# Altium integrated library RF Inductors-MK_rev15a.intlib: 138 symbols (part 1 of 2)
Pins are listed as number, name and electrical type; pins without a type are passive.

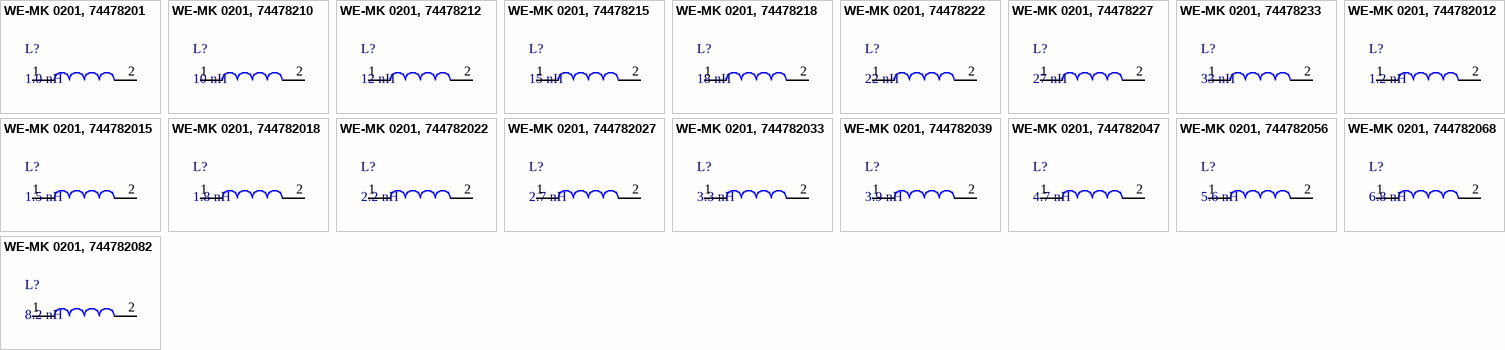
[diagram p0: symbols WE-MK 0201, 74478201 to WE-MK 0201, 744782082]

## WE-MK 0201, 74478201
designator L?, comment 1.0 nH
WE-MK Multilayer Ceramic SMD Inductor, Inductance=1.0 nH; partNo: 74478201; Manufacturer: Wurth Elektronik; Inductance: 1.0 nH; ComponentLink1Description: Manufacturer; ComponentLink1URL: http://www.we-online.de; Created by: Baojun Chen; Created Date: Nov.2015; ComponentLink2Description: Datasheet; ComponentLink2URL: http://katalog.we-online.de/pbs/datasheet/74478201.pdf
footprint WE-MK_0201
pins: 1, 2

## WE-MK 0201, 74478210
designator L?, comment 10 nH
WE-MK Multilayer Ceramic SMD Inductor, Inductance=10 nH; partNo: 74478210; Manufacturer: Wurth Elektronik; Inductance: 10 nH; ComponentLink1Description: Manufacturer; ComponentLink1URL: http://www.we-online.de; Created by: Baojun Chen; Created Date: Nov.2015; ComponentLink2Description: Datasheet; ComponentLink2URL: http://katalog.we-online.de/pbs/datasheet/74478210.pdf
footprint WE-MK_0201
pins: 1, 2

## WE-MK 0201, 74478212
designator L?, comment 12 nH
WE-MK Multilayer Ceramic SMD Inductor, Inductance=12 nH; partNo: 74478212; Manufacturer: Wurth Elektronik; Inductance: 12 nH; ComponentLink1Description: Manufacturer; ComponentLink1URL: http://www.we-online.de; Created by: Baojun Chen; Created Date: Nov.2015; ComponentLink2Description: Datasheet; ComponentLink2URL: http://katalog.we-online.de/pbs/datasheet/74478212.pdf
footprint WE-MK_0201
pins: 1, 2

## WE-MK 0201, 74478215
designator L?, comment 15 nH
WE-MK Multilayer Ceramic SMD Inductor, Inductance=15 nH; partNo: 74478215; Manufacturer: Wurth Elektronik; Inductance: 15 nH; ComponentLink1Description: Manufacturer; ComponentLink1URL: http://www.we-online.de; Created by: Baojun Chen; Created Date: Nov.2015; ComponentLink2Description: Datasheet; ComponentLink2URL: http://katalog.we-online.de/pbs/datasheet/74478215.pdf
footprint WE-MK_0201
pins: 1, 2

## WE-MK 0201, 74478218
designator L?, comment 18 nH
WE-MK Multilayer Ceramic SMD Inductor, Inductance=18 nH; partNo: 74478218; Manufacturer: Wurth Elektronik; Inductance: 18 nH; ComponentLink1Description: Manufacturer; ComponentLink1URL: http://www.we-online.de; Created by: Baojun Chen; Created Date: Nov.2015; ComponentLink2Description: Datasheet; ComponentLink2URL: http://katalog.we-online.de/pbs/datasheet/74478218.pdf
footprint WE-MK_0201
pins: 1, 2

## WE-MK 0201, 74478222
designator L?, comment 22 nH
WE-MK Multilayer Ceramic SMD Inductor, Inductance=22 nH; partNo: 74478222; Manufacturer: Wurth Elektronik; Inductance: 22 nH; ComponentLink1Description: Manufacturer; ComponentLink1URL: http://www.we-online.de; Created by: Baojun Chen; Created Date: Nov.2015; ComponentLink2Description: Datasheet; ComponentLink2URL: http://katalog.we-online.de/pbs/datasheet/74478222.pdf
footprint WE-MK_0201
pins: 1, 2

## WE-MK 0201, 74478227
designator L?, comment 27 nH
WE-MK Multilayer Ceramic SMD Inductor, Inductance=27 nH; partNo: 74478227; Manufacturer: Wurth Elektronik; Inductance: 27 nH; ComponentLink1Description: Manufacturer; ComponentLink1URL: http://www.we-online.de; Created by: Baojun Chen; Created Date: Nov.2015; ComponentLink2Description: Datasheet; ComponentLink2URL: http://katalog.we-online.de/pbs/datasheet/74478227.pdf
footprint WE-MK_0201
pins: 1, 2

## WE-MK 0201, 74478233
designator L?, comment 33 nH
WE-MK Multilayer Ceramic SMD Inductor, Inductance=33 nH; partNo: 74478233; Manufacturer: Wurth Elektronik; Inductance: 33 nH; ComponentLink1Description: Manufacturer; ComponentLink1URL: http://www.we-online.de; Created by: Baojun Chen; Created Date: Nov.2015; ComponentLink2Description: Datasheet; ComponentLink2URL: http://katalog.we-online.de/pbs/datasheet/74478233.pdf
footprint WE-MK_0201
pins: 1, 2

## WE-MK 0201, 744782012
designator L?, comment 1.2 nH
WE-MK Multilayer Ceramic SMD Inductor, Inductance=1.2 nH; partNo: 744782012; Manufacturer: Wurth Elektronik; Inductance: 1.2 nH; ComponentLink1Description: Manufacturer; ComponentLink1URL: http://www.we-online.de; Created by: Baojun Chen; Created Date: Nov.2015; ComponentLink2Description: Datasheet; ComponentLink2URL: http://katalog.we-online.de/pbs/datasheet/744782012.pdf
footprint WE-MK_0201
pins: 1, 2

## WE-MK 0201, 744782015
designator L?, comment 1.5 nH
WE-MK Multilayer Ceramic SMD Inductor, Inductance=1.5 nH; partNo: 744782015; Manufacturer: Wurth Elektronik; Inductance: 1.5 nH; ComponentLink1Description: Manufacturer; ComponentLink1URL: http://www.we-online.de; Created by: Baojun Chen; Created Date: Nov.2015; ComponentLink2Description: Datasheet; ComponentLink2URL: http://katalog.we-online.de/pbs/datasheet/744782015.pdf
footprint WE-MK_0201
pins: 1, 2

## WE-MK 0201, 744782018
designator L?, comment 1.8 nH
WE-MK Multilayer Ceramic SMD Inductor, Inductance=1.8 nH; partNo: 744782018; Manufacturer: Wurth Elektronik; Inductance: 1.8 nH; ComponentLink1Description: Manufacturer; ComponentLink1URL: http://www.we-online.de; Created by: Baojun Chen; Created Date: Nov.2015; ComponentLink2Description: Datasheet; ComponentLink2URL: http://katalog.we-online.de/pbs/datasheet/744782018.pdf
footprint WE-MK_0201
pins: 1, 2

## WE-MK 0201, 744782022
designator L?, comment 2.2 nH
WE-MK Multilayer Ceramic SMD Inductor, Inductance=2.2 nH; partNo: 744782022; Manufacturer: Wurth Elektronik; Inductance: 2.2 nH; ComponentLink1Description: Manufacturer; ComponentLink1URL: http://www.we-online.de; Created by: Baojun Chen; Created Date: Nov.2015; ComponentLink2Description: Datasheet; ComponentLink2URL: http://katalog.we-online.de/pbs/datasheet/744782022.pdf
footprint WE-MK_0201
pins: 1, 2

## WE-MK 0201, 744782027
designator L?, comment 2.7 nH
WE-MK Multilayer Ceramic SMD Inductor, Inductance=2.7 nH; partNo: 744782027; Manufacturer: Wurth Elektronik; Inductance: 2.7 nH; ComponentLink1Description: Manufacturer; ComponentLink1URL: http://www.we-online.de; Created by: Baojun Chen; Created Date: Nov.2015; ComponentLink2Description: Datasheet; ComponentLink2URL: http://katalog.we-online.de/pbs/datasheet/744782027.pdf
footprint WE-MK_0201
pins: 1, 2

## WE-MK 0201, 744782033
designator L?, comment 3.3 nH
WE-MK Multilayer Ceramic SMD Inductor, Inductance=3.3 nH; partNo: 744782033; Manufacturer: Wurth Elektronik; Inductance: 3.3 nH; ComponentLink1Description: Manufacturer; ComponentLink1URL: http://www.we-online.de; Created by: Baojun Chen; Created Date: Nov.2015; ComponentLink2Description: Datasheet; ComponentLink2URL: http://katalog.we-online.de/pbs/datasheet/744782033.pdf
footprint WE-MK_0201
pins: 1, 2

## WE-MK 0201, 744782039
designator L?, comment 3.9 nH
WE-MK Multilayer Ceramic SMD Inductor, Inductance=3.9 nH; partNo: 744782039; Manufacturer: Wurth Elektronik; Inductance: 3.9 nH; ComponentLink1Description: Manufacturer; ComponentLink1URL: http://www.we-online.de; Created by: Baojun Chen; Created Date: Nov.2015; ComponentLink2Description: Datasheet; ComponentLink2URL: http://katalog.we-online.de/pbs/datasheet/744782039.pdf
footprint WE-MK_0201
pins: 1, 2

## WE-MK 0201, 744782047
designator L?, comment 4.7 nH
WE-MK Multilayer Ceramic SMD Inductor, Inductance=4.7 nH; partNo: 744782047; Manufacturer: Wurth Elektronik; Inductance: 4.7 nH; ComponentLink1Description: Manufacturer; ComponentLink1URL: http://www.we-online.de; Created by: Baojun Chen; Created Date: Nov.2015; ComponentLink2Description: Datasheet; ComponentLink2URL: http://katalog.we-online.de/pbs/datasheet/744782047.pdf
footprint WE-MK_0201
pins: 1, 2

## WE-MK 0201, 744782056
designator L?, comment 5.6 nH
WE-MK Multilayer Ceramic SMD Inductor, Inductance=5.6 nH; partNo: 744782056; Manufacturer: Wurth Elektronik; Inductance: 5.6 nH; ComponentLink1Description: Manufacturer; ComponentLink1URL: http://www.we-online.de; Created by: Baojun Chen; Created Date: Nov.2015; ComponentLink2Description: Datasheet; ComponentLink2URL: http://katalog.we-online.de/pbs/datasheet/744782056.pdf
footprint WE-MK_0201
pins: 1, 2

## WE-MK 0201, 744782068
designator L?, comment 6.8 nH
WE-MK Multilayer Ceramic SMD Inductor, Inductance=6.8 nH; partNo: 744782068; Manufacturer: Wurth Elektronik; Inductance: 6.8 nH; ComponentLink1Description: Manufacturer; ComponentLink1URL: http://www.we-online.de; Created by: Baojun Chen; Created Date: Nov.2015; ComponentLink2Description: Datasheet; ComponentLink2URL: http://katalog.we-online.de/pbs/datasheet/744782068.pdf
footprint WE-MK_0201
pins: 1, 2

## WE-MK 0201, 744782082
designator L?, comment 8.2 nH
WE-MK Multilayer Ceramic SMD Inductor, Inductance=8.2 nH; partNo: 744782082; Manufacturer: Wurth Elektronik; Inductance: 8.2 nH; ComponentLink1Description: Manufacturer; ComponentLink1URL: http://www.we-online.de; Created by: Baojun Chen; Created Date: Nov.2015; ComponentLink2Description: Datasheet; ComponentLink2URL: http://katalog.we-online.de/pbs/datasheet/744782082.pdf
footprint WE-MK_0201
pins: 1, 2


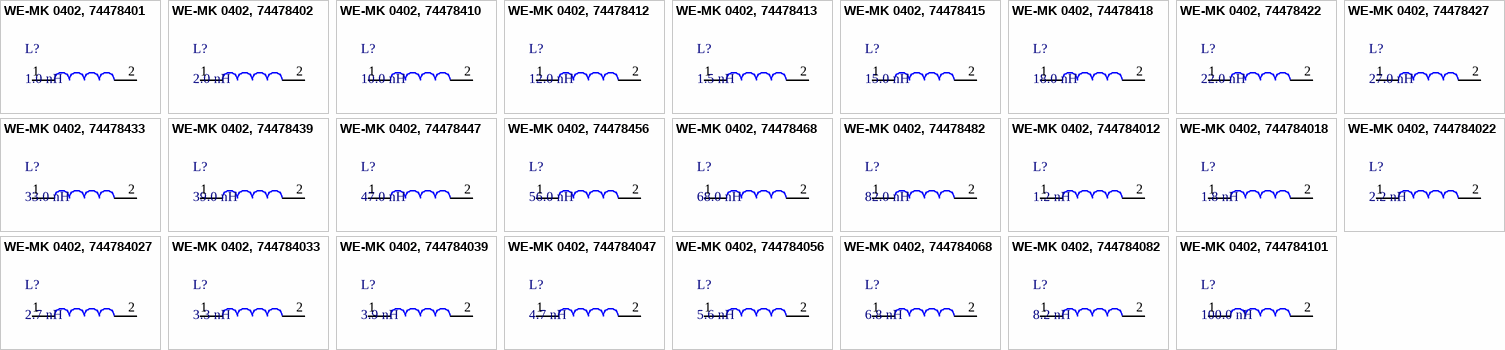
[diagram p1: symbols WE-MK 0402, 74478401 to WE-MK 0402, 744784101]

## WE-MK 0402, 74478401
designator L?, comment 1.0 nH
WE-MK Multilayer Ceramic SMD Inductor, Inductance=1.0 nH; partNo: 74478401; Manufacturer: Wurth Elektronik; Inductance: 1.0 nH; ComponentLink1Description: Manufacturer; ComponentLink1URL: http://www.we-online.de; Created by: Baojun Chen; Created Date: Nov.2015; ComponentLink2Description: Datasheet; ComponentLink2URL: http://katalog.we-online.de/pbs/datasheet/74478401.pdf
footprint WE-MK_0402
pins: 1, 2

## WE-MK 0402, 74478402
designator L?, comment 2.0 nH
WE-MK Multilayer Ceramic SMD Inductor, Inductance=2.0 nH; partNo: 74478402; Manufacturer: Wurth Elektronik; Inductance: 2.0 nH; ComponentLink1Description: Manufacturer; ComponentLink1URL: http://www.we-online.de; Created by: Baojun Chen; Created Date: Nov.2015; ComponentLink2Description: Datasheet; ComponentLink2URL: http://katalog.we-online.de/pbs/datasheet/74478402.pdf
footprint WE-MK_0402
pins: 1, 2

## WE-MK 0402, 74478410
designator L?, comment 10.0 nH
WE-MK Multilayer Ceramic SMD Inductor, Inductance=10.0 nH; partNo: 74478410; Manufacturer: Wurth Elektronik; Inductance: 10.0 nH; ComponentLink1Description: Manufacturer; ComponentLink1URL: http://www.we-online.de; Created by: Baojun Chen; Created Date: Nov.2015; ComponentLink2Description: Datasheet; ComponentLink2URL: http://katalog.we-online.de/pbs/datasheet/74478410.pdf
footprint WE-MK_0402
pins: 1, 2

## WE-MK 0402, 74478412
designator L?, comment 12.0 nH
WE-MK Multilayer Ceramic SMD Inductor, Inductance=12.0 nH; partNo: 74478412; Manufacturer: Wurth Elektronik; Inductance: 12.0 nH; ComponentLink1Description: Manufacturer; ComponentLink1URL: http://www.we-online.de; Created by: Baojun Chen; Created Date: Nov.2015; ComponentLink2Description: Datasheet; ComponentLink2URL: http://katalog.we-online.de/pbs/datasheet/74478412.pdf
footprint WE-MK_0402
pins: 1, 2

## WE-MK 0402, 74478413
designator L?, comment 1.5 nH
WE-MK Multilayer Ceramic SMD Inductor, Inductance=1.5 nH; partNo: 74478413; Manufacturer: Wurth Elektronik; Inductance: 1.5 nH; ComponentLink1Description: Manufacturer; ComponentLink1URL: http://www.we-online.de; Created by: Baojun Chen; Created Date: Nov.2015; ComponentLink2Description: Datasheet; ComponentLink2URL: http://katalog.we-online.de/pbs/datasheet/74478413.pdf
footprint WE-MK_0402
pins: 1, 2

## WE-MK 0402, 74478415
designator L?, comment 15.0 nH
WE-MK Multilayer Ceramic SMD Inductor, Inductance=15.0 nH; partNo: 74478415; Manufacturer: Wurth Elektronik; Inductance: 15.0 nH; ComponentLink1Description: Manufacturer; ComponentLink1URL: http://www.we-online.de; Created by: Baojun Chen; Created Date: Nov.2015; ComponentLink2Description: Datasheet; ComponentLink2URL: http://katalog.we-online.de/pbs/datasheet/74478415.pdf
footprint WE-MK_0402
pins: 1, 2

## WE-MK 0402, 74478418
designator L?, comment 18.0 nH
WE-MK Multilayer Ceramic SMD Inductor, Inductance=18.0 nH; partNo: 74478418; Manufacturer: Wurth Elektronik; Inductance: 18.0 nH; ComponentLink1Description: Manufacturer; ComponentLink1URL: http://www.we-online.de; Created by: Baojun Chen; Created Date: Nov.2015; ComponentLink2Description: Datasheet; ComponentLink2URL: http://katalog.we-online.de/pbs/datasheet/74478418.pdf
footprint WE-MK_0402
pins: 1, 2

## WE-MK 0402, 74478422
designator L?, comment 22.0 nH
WE-MK Multilayer Ceramic SMD Inductor, Inductance=22.0 nH; partNo: 74478422; Manufacturer: Wurth Elektronik; Inductance: 22.0 nH; ComponentLink1Description: Manufacturer; ComponentLink1URL: http://www.we-online.de; Created by: Baojun Chen; Created Date: Nov.2015; ComponentLink2Description: Datasheet; ComponentLink2URL: http://katalog.we-online.de/pbs/datasheet/74478422.pdf
footprint WE-MK_0402
pins: 1, 2

## WE-MK 0402, 74478427
designator L?, comment 27.0 nH
WE-MK Multilayer Ceramic SMD Inductor, Inductance=27.0 nH; partNo: 74478427; Manufacturer: Wurth Elektronik; Inductance: 27.0 nH; ComponentLink1Description: Manufacturer; ComponentLink1URL: http://www.we-online.de; Created by: Baojun Chen; Created Date: Nov.2015; ComponentLink2Description: Datasheet; ComponentLink2URL: http://katalog.we-online.de/pbs/datasheet/74478427.pdf
footprint WE-MK_0402
pins: 1, 2

## WE-MK 0402, 74478433
designator L?, comment 33.0 nH
WE-MK Multilayer Ceramic SMD Inductor, Inductance=33.0 nH; partNo: 74478433; Manufacturer: Wurth Elektronik; Inductance: 33.0 nH; ComponentLink1Description: Manufacturer; ComponentLink1URL: http://www.we-online.de; Created by: Baojun Chen; Created Date: Nov.2015; ComponentLink2Description: Datasheet; ComponentLink2URL: http://katalog.we-online.de/pbs/datasheet/74478433.pdf
footprint WE-MK_0402
pins: 1, 2

## WE-MK 0402, 74478439
designator L?, comment 39.0 nH
WE-MK Multilayer Ceramic SMD Inductor, Inductance=39.0 nH; partNo: 74478439; Manufacturer: Wurth Elektronik; Inductance: 39.0 nH; ComponentLink1Description: Manufacturer; ComponentLink1URL: http://www.we-online.de; Created by: Baojun Chen; Created Date: Nov.2015; ComponentLink2Description: Datasheet; ComponentLink2URL: http://katalog.we-online.de/pbs/datasheet/74478439.pdf
footprint WE-MK_0402
pins: 1, 2

## WE-MK 0402, 74478447
designator L?, comment 47.0 nH
WE-MK Multilayer Ceramic SMD Inductor, Inductance=47.0 nH; partNo: 74478447; Manufacturer: Wurth Elektronik; Inductance: 47.0 nH; ComponentLink1Description: Manufacturer; ComponentLink1URL: http://www.we-online.de; Created by: Baojun Chen; Created Date: Nov.2015; ComponentLink2Description: Datasheet; ComponentLink2URL: http://katalog.we-online.de/pbs/datasheet/74478447.pdf
footprint WE-MK_0402
pins: 1, 2

## WE-MK 0402, 74478456
designator L?, comment 56.0 nH
WE-MK Multilayer Ceramic SMD Inductor, Inductance=56.0 nH; partNo: 74478456; Manufacturer: Wurth Elektronik; Inductance: 56.0 nH; ComponentLink1Description: Manufacturer; ComponentLink1URL: http://www.we-online.de; Created by: Baojun Chen; Created Date: Nov.2015; ComponentLink2Description: Datasheet; ComponentLink2URL: http://katalog.we-online.de/pbs/datasheet/74478456.pdf
footprint WE-MK_0402
pins: 1, 2

## WE-MK 0402, 74478468
designator L?, comment 68.0 nH
WE-MK Multilayer Ceramic SMD Inductor, Inductance=68.0 nH; partNo: 74478468; Manufacturer: Wurth Elektronik; Inductance: 68.0 nH; ComponentLink1Description: Manufacturer; ComponentLink1URL: http://www.we-online.de; Created by: Baojun Chen; Created Date: Nov.2015; ComponentLink2Description: Datasheet; ComponentLink2URL: http://katalog.we-online.de/pbs/datasheet/74478468.pdf
footprint WE-MK_0402
pins: 1, 2

## WE-MK 0402, 74478482
designator L?, comment 82.0 nH
WE-MK Multilayer Ceramic SMD Inductor, Inductance=82.0 nH; partNo: 74478482; Manufacturer: Wurth Elektronik; Inductance: 82.0 nH; ComponentLink1Description: Manufacturer; ComponentLink1URL: http://www.we-online.de; Created by: Baojun Chen; Created Date: Nov.2015; ComponentLink2Description: Datasheet; ComponentLink2URL: http://katalog.we-online.de/pbs/datasheet/74478482.pdf
footprint WE-MK_0402
pins: 1, 2

## WE-MK 0402, 744784012
designator L?, comment 1.2 nH
WE-MK Multilayer Ceramic SMD Inductor, Inductance=1.2 nH; partNo: 744784012; Manufacturer: Wurth Elektronik; Inductance: 1.2 nH; ComponentLink1Description: Manufacturer; ComponentLink1URL: http://www.we-online.de; Created by: Baojun Chen; Created Date: Nov.2015; ComponentLink2Description: Datasheet; ComponentLink2URL: http://katalog.we-online.de/pbs/datasheet/744784012.pdf
footprint WE-MK_0402
pins: 1, 2

## WE-MK 0402, 744784018
designator L?, comment 1.8 nH
WE-MK Multilayer Ceramic SMD Inductor, Inductance=1.8 nH; partNo: 744784018; Manufacturer: Wurth Elektronik; Inductance: 1.8 nH; ComponentLink1Description: Manufacturer; ComponentLink1URL: http://www.we-online.de; Created by: Baojun Chen; Created Date: Nov.2015; ComponentLink2Description: Datasheet; ComponentLink2URL: http://katalog.we-online.de/pbs/datasheet/744784018.pdf
footprint WE-MK_0402
pins: 1, 2

## WE-MK 0402, 744784022
designator L?, comment 2.2 nH
WE-MK Multilayer Ceramic SMD Inductor, Inductance=2.2 nH; partNo: 744784022; Manufacturer: Wurth Elektronik; Inductance: 2.2 nH; ComponentLink1Description: Manufacturer; ComponentLink1URL: http://www.we-online.de; Created by: Baojun Chen; Created Date: Nov.2015; ComponentLink2Description: Datasheet; ComponentLink2URL: http://katalog.we-online.de/pbs/datasheet/744784022.pdf
footprint WE-MK_0402
pins: 1, 2

## WE-MK 0402, 744784027
designator L?, comment 2.7 nH
WE-MK Multilayer Ceramic SMD Inductor, Inductance=2.7 nH; partNo: 744784027; Manufacturer: Wurth Elektronik; Inductance: 2.7 nH; ComponentLink1Description: Manufacturer; ComponentLink1URL: http://www.we-online.de; Created by: Baojun Chen; Created Date: Nov.2015; ComponentLink2Description: Datasheet; ComponentLink2URL: http://katalog.we-online.de/pbs/datasheet/744784027.pdf
footprint WE-MK_0402
pins: 1, 2

## WE-MK 0402, 744784033
designator L?, comment 3.3 nH
WE-MK Multilayer Ceramic SMD Inductor, Inductance=3.3 nH; partNo: 744784033; Manufacturer: Wurth Elektronik; Inductance: 3.3 nH; ComponentLink1Description: Manufacturer; ComponentLink1URL: http://www.we-online.de; Created by: Baojun Chen; Created Date: Nov.2015; ComponentLink2Description: Datasheet; ComponentLink2URL: http://katalog.we-online.de/pbs/datasheet/744784033.pdf
footprint WE-MK_0402
pins: 1, 2

## WE-MK 0402, 744784039
designator L?, comment 3.9 nH
WE-MK Multilayer Ceramic SMD Inductor, Inductance=3.9 nH; partNo: 744784039; Manufacturer: Wurth Elektronik; Inductance: 3.9 nH; ComponentLink1Description: Manufacturer; ComponentLink1URL: http://www.we-online.de; Created by: Baojun Chen; Created Date: Nov.2015; ComponentLink2Description: Datasheet; ComponentLink2URL: http://katalog.we-online.de/pbs/datasheet/744784039.pdf
footprint WE-MK_0402
pins: 1, 2

## WE-MK 0402, 744784047
designator L?, comment 4.7 nH
WE-MK Multilayer Ceramic SMD Inductor, Inductance=4.7 nH; partNo: 744784047; Manufacturer: Wurth Elektronik; Inductance: 4.7 nH; ComponentLink1Description: Manufacturer; ComponentLink1URL: http://www.we-online.de; Created by: Baojun Chen; Created Date: Nov.2015; ComponentLink2Description: Datasheet; ComponentLink2URL: http://katalog.we-online.de/pbs/datasheet/744784047.pdf
footprint WE-MK_0402
pins: 1, 2

## WE-MK 0402, 744784056
designator L?, comment 5.6 nH
WE-MK Multilayer Ceramic SMD Inductor, Inductance=5.6 nH; partNo: 744784056; Manufacturer: Wurth Elektronik; Inductance: 5.6 nH; ComponentLink1Description: Manufacturer; ComponentLink1URL: http://www.we-online.de; Created by: Baojun Chen; Created Date: Nov.2015; ComponentLink2Description: Datasheet; ComponentLink2URL: http://katalog.we-online.de/pbs/datasheet/744784056.pdf
footprint WE-MK_0402
pins: 1, 2

## WE-MK 0402, 744784068
designator L?, comment 6.8 nH
WE-MK Multilayer Ceramic SMD Inductor, Inductance=6.8 nH; partNo: 744784068; Manufacturer: Wurth Elektronik; Inductance: 6.8 nH; ComponentLink1Description: Manufacturer; ComponentLink1URL: http://www.we-online.de; Created by: Baojun Chen; Created Date: Nov.2015; ComponentLink2Description: Datasheet; ComponentLink2URL: http://katalog.we-online.de/pbs/datasheet/744784068.pdf
footprint WE-MK_0402
pins: 1, 2

## WE-MK 0402, 744784082
designator L?, comment 8.2 nH
WE-MK Multilayer Ceramic SMD Inductor, Inductance=8.2 nH; partNo: 744784082; Manufacturer: Wurth Elektronik; Inductance: 8.2 nH; ComponentLink1Description: Manufacturer; ComponentLink1URL: http://www.we-online.de; Created by: Baojun Chen; Created Date: Nov.2015; ComponentLink2Description: Datasheet; ComponentLink2URL: http://katalog.we-online.de/pbs/datasheet/744784082.pdf
footprint WE-MK_0402
pins: 1, 2

## WE-MK 0402, 744784101
designator L?, comment 100.0 nH
WE-MK Multilayer Ceramic SMD Inductor, Inductance=100.0 nH; partNo: 744784101; Manufacturer: Wurth Elektronik; Inductance: 100.0 nH; ComponentLink1Description: Manufacturer; ComponentLink1URL: http://www.we-online.de; Created by: Baojun Chen; Created Date: Nov.2015; ComponentLink2Description: Datasheet; ComponentLink2URL: http://katalog.we-online.de/pbs/datasheet/744784101.pdf
footprint WE-MK_0402
pins: 1, 2


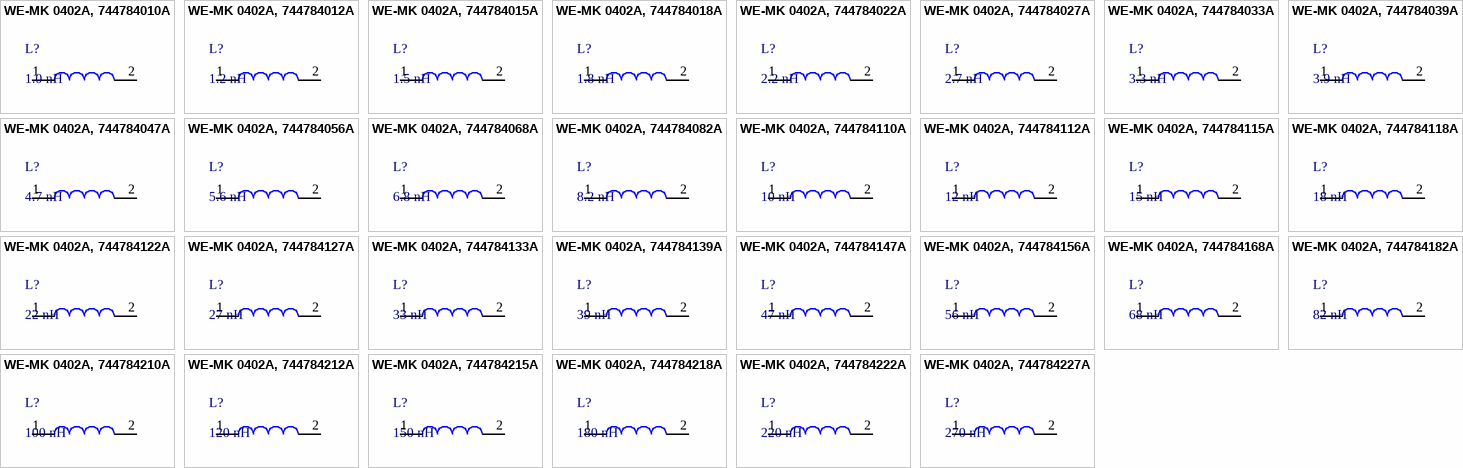
[diagram p2: symbols WE-MK 0402A, 744784010A to WE-MK 0402A, 744784227A]

## WE-MK 0402A, 744784010A
designator L?, comment 1.0 nH
WE-MK Multilayer Ceramic SMD Inductor, Inductance=1.0 nH; partNo: 744784010A; Manufacturer: Wurth Elektronik; Inductance: 1.0 nH; ComponentLink1Description: Manufacturer; ComponentLink1URL: http://www.we-online.de; Created by: Baojun Chen; Created Date: Nov.2015; ComponentLink2Description: Datasheet; ComponentLink2URL: http://katalog.we-online.de/pbs/datasheet/744784010A.pdf
footprint WE-MK_0402A
pins: 1, 2

## WE-MK 0402A, 744784012A
designator L?, comment 1.2 nH
WE-MK Multilayer Ceramic SMD Inductor, Inductance=1.2 nH; partNo: 744784012A; Manufacturer: Wurth Elektronik; Inductance: 1.2 nH; ComponentLink1Description: Manufacturer; ComponentLink1URL: http://www.we-online.de; Created by: Baojun Chen; Created Date: Nov.2015; ComponentLink2Description: Datasheet; ComponentLink2URL: http://katalog.we-online.de/pbs/datasheet/744784012A.pdf
footprint WE-MK_0402A
pins: 1, 2

## WE-MK 0402A, 744784015A
designator L?, comment 1.5 nH
WE-MK Multilayer Ceramic SMD Inductor, Inductance=1.5 nH; partNo: 744784015A; Manufacturer: Wurth Elektronik; Inductance: 1.5 nH; ComponentLink1Description: Manufacturer; ComponentLink1URL: http://www.we-online.de; Created by: Baojun Chen; Created Date: Nov.2015; ComponentLink2Description: Datasheet; ComponentLink2URL: http://katalog.we-online.de/pbs/datasheet/744784015A.pdf
footprint WE-MK_0402A
pins: 1, 2

## WE-MK 0402A, 744784018A
designator L?, comment 1.8 nH
WE-MK Multilayer Ceramic SMD Inductor, Inductance=1.8 nH; partNo: 744784018A; Manufacturer: Wurth Elektronik; Inductance: 1.8 nH; ComponentLink1Description: Manufacturer; ComponentLink1URL: http://www.we-online.de; Created by: Baojun Chen; Created Date: Nov.2015; ComponentLink2Description: Datasheet; ComponentLink2URL: http://katalog.we-online.de/pbs/datasheet/744784018A.pdf
footprint WE-MK_0402A
pins: 1, 2

## WE-MK 0402A, 744784022A
designator L?, comment 2.2 nH
WE-MK Multilayer Ceramic SMD Inductor, Inductance=2.2 nH; partNo: 744784022A; Manufacturer: Wurth Elektronik; Inductance: 2.2 nH; ComponentLink1Description: Manufacturer; ComponentLink1URL: http://www.we-online.de; Created by: Baojun Chen; Created Date: Nov.2015; ComponentLink2Description: Datasheet; ComponentLink2URL: http://katalog.we-online.de/pbs/datasheet/744784022A.pdf
footprint WE-MK_0402A
pins: 1, 2

## WE-MK 0402A, 744784027A
designator L?, comment 2.7 nH
WE-MK Multilayer Ceramic SMD Inductor, Inductance=2.7 nH; partNo: 744784027A; Manufacturer: Wurth Elektronik; Inductance: 2.7 nH; ComponentLink1Description: Manufacturer; ComponentLink1URL: http://www.we-online.de; Created by: Baojun Chen; Created Date: Nov.2015; ComponentLink2Description: Datasheet; ComponentLink2URL: http://katalog.we-online.de/pbs/datasheet/744784027A.pdf
footprint WE-MK_0402A
pins: 1, 2

## WE-MK 0402A, 744784033A
designator L?, comment 3.3 nH
WE-MK Multilayer Ceramic SMD Inductor, Inductance=3.3 nH; partNo: 744784033A; Manufacturer: Wurth Elektronik; Inductance: 3.3 nH; ComponentLink1Description: Manufacturer; ComponentLink1URL: http://www.we-online.de; Created by: Baojun Chen; Created Date: Nov.2015; ComponentLink2Description: Datasheet; ComponentLink2URL: http://katalog.we-online.de/pbs/datasheet/744784033A.pdf
footprint WE-MK_0402A
pins: 1, 2

## WE-MK 0402A, 744784039A
designator L?, comment 3.9 nH
WE-MK Multilayer Ceramic SMD Inductor, Inductance=3.9 nH; partNo: 744784039A; Manufacturer: Wurth Elektronik; Inductance: 3.9 nH; ComponentLink1Description: Manufacturer; ComponentLink1URL: http://www.we-online.de; Created by: Baojun Chen; Created Date: Nov.2015; ComponentLink2Description: Datasheet; ComponentLink2URL: http://katalog.we-online.de/pbs/datasheet/744784039A.pdf
footprint WE-MK_0402A
pins: 1, 2

## WE-MK 0402A, 744784047A
designator L?, comment 4.7 nH
WE-MK Multilayer Ceramic SMD Inductor, Inductance=4.7 nH; partNo: 744784047A; Manufacturer: Wurth Elektronik; Inductance: 4.7 nH; ComponentLink1Description: Manufacturer; ComponentLink1URL: http://www.we-online.de; Created by: Baojun Chen; Created Date: Nov.2015; ComponentLink2Description: Datasheet; ComponentLink2URL: http://katalog.we-online.de/pbs/datasheet/744784047A.pdf
footprint WE-MK_0402A
pins: 1, 2

## WE-MK 0402A, 744784056A
designator L?, comment 5.6 nH
WE-MK Multilayer Ceramic SMD Inductor, Inductance=5.6 nH; partNo: 744784056A; Manufacturer: Wurth Elektronik; Inductance: 5.6 nH; ComponentLink1Description: Manufacturer; ComponentLink1URL: http://www.we-online.de; Created by: Baojun Chen; Created Date: Nov.2015; ComponentLink2Description: Datasheet; ComponentLink2URL: http://katalog.we-online.de/pbs/datasheet/744784056A.pdf
footprint WE-MK_0402A
pins: 1, 2

## WE-MK 0402A, 744784068A
designator L?, comment 6.8 nH
WE-MK Multilayer Ceramic SMD Inductor, Inductance=6.8 nH; partNo: 744784068A; Manufacturer: Wurth Elektronik; Inductance: 6.8 nH; ComponentLink1Description: Manufacturer; ComponentLink1URL: http://www.we-online.de; Created by: Baojun Chen; Created Date: Nov.2015; ComponentLink2Description: Datasheet; ComponentLink2URL: http://katalog.we-online.de/pbs/datasheet/744784068A.pdf
footprint WE-MK_0402A
pins: 1, 2

## WE-MK 0402A, 744784082A
designator L?, comment 8.2 nH
WE-MK Multilayer Ceramic SMD Inductor, Inductance=8.2 nH; partNo: 744784082A; Manufacturer: Wurth Elektronik; Inductance: 8.2 nH; ComponentLink1Description: Manufacturer; ComponentLink1URL: http://www.we-online.de; Created by: Baojun Chen; Created Date: Nov.2015; ComponentLink2Description: Datasheet; ComponentLink2URL: http://katalog.we-online.de/pbs/datasheet/744784082A.pdf
footprint WE-MK_0402A
pins: 1, 2

## WE-MK 0402A, 744784110A
designator L?, comment 10 nH
WE-MK Multilayer Ceramic SMD Inductor, Inductance=10 nH; partNo: 744784110A; Manufacturer: Wurth Elektronik; Inductance: 10 nH; ComponentLink1Description: Manufacturer; ComponentLink1URL: http://www.we-online.de; Created by: Baojun Chen; Created Date: Nov.2015; ComponentLink2Description: Datasheet; ComponentLink2URL: http://katalog.we-online.de/pbs/datasheet/744784110A.pdf
footprint WE-MK_0402A
pins: 1, 2

## WE-MK 0402A, 744784112A
designator L?, comment 12 nH
WE-MK Multilayer Ceramic SMD Inductor, Inductance=12 nH; partNo: 744784112A; Manufacturer: Wurth Elektronik; Inductance: 12 nH; ComponentLink1Description: Manufacturer; ComponentLink1URL: http://www.we-online.de; Created by: Baojun Chen; Created Date: Nov.2015; ComponentLink2Description: Datasheet; ComponentLink2URL: http://katalog.we-online.de/pbs/datasheet/744784112A.pdf
footprint WE-MK_0402A
pins: 1, 2

## WE-MK 0402A, 744784115A
designator L?, comment 15 nH
WE-MK Multilayer Ceramic SMD Inductor, Inductance=15 nH; partNo: 744784115A; Manufacturer: Wurth Elektronik; Inductance: 15 nH; ComponentLink1Description: Manufacturer; ComponentLink1URL: http://www.we-online.de; Created by: Baojun Chen; Created Date: Nov.2015; ComponentLink2Description: Datasheet; ComponentLink2URL: http://katalog.we-online.de/pbs/datasheet/744784115A.pdf
footprint WE-MK_0402A
pins: 1, 2

## WE-MK 0402A, 744784118A
designator L?, comment 18 nH
WE-MK Multilayer Ceramic SMD Inductor, Inductance=18 nH; partNo: 744784118A; Manufacturer: Wurth Elektronik; Inductance: 18 nH; ComponentLink1Description: Manufacturer; ComponentLink1URL: http://www.we-online.de; Created by: Baojun Chen; Created Date: Nov.2015; ComponentLink2Description: Datasheet; ComponentLink2URL: http://katalog.we-online.de/pbs/datasheet/744784118A.pdf
footprint WE-MK_0402A
pins: 1, 2

## WE-MK 0402A, 744784122A
designator L?, comment 22 nH
WE-MK Multilayer Ceramic SMD Inductor, Inductance=22 nH; partNo: 744784122A; Manufacturer: Wurth Elektronik; Inductance: 22 nH; ComponentLink1Description: Manufacturer; ComponentLink1URL: http://www.we-online.de; Created by: Baojun Chen; Created Date: Nov.2015; ComponentLink2Description: Datasheet; ComponentLink2URL: http://katalog.we-online.de/pbs/datasheet/744784122A.pdf
footprint WE-MK_0402A
pins: 1, 2

## WE-MK 0402A, 744784127A
designator L?, comment 27 nH
WE-MK Multilayer Ceramic SMD Inductor, Inductance=27 nH; partNo: 744784127A; Manufacturer: Wurth Elektronik; Inductance: 27 nH; ComponentLink1Description: Manufacturer; ComponentLink1URL: http://www.we-online.de; Created by: Baojun Chen; Created Date: Nov.2015; ComponentLink2Description: Datasheet; ComponentLink2URL: http://katalog.we-online.de/pbs/datasheet/744784127A.pdf
footprint WE-MK_0402A
pins: 1, 2

## WE-MK 0402A, 744784133A
designator L?, comment 33 nH
WE-MK Multilayer Ceramic SMD Inductor, Inductance=33 nH; partNo: 744784133A; Manufacturer: Wurth Elektronik; Inductance: 33 nH; ComponentLink1Description: Manufacturer; ComponentLink1URL: http://www.we-online.de; Created by: Baojun Chen; Created Date: Nov.2015; ComponentLink2Description: Datasheet; ComponentLink2URL: http://katalog.we-online.de/pbs/datasheet/744784133A.pdf
footprint WE-MK_0402A
pins: 1, 2

## WE-MK 0402A, 744784139A
designator L?, comment 39 nH
WE-MK Multilayer Ceramic SMD Inductor, Inductance=39 nH; partNo: 744784139A; Manufacturer: Wurth Elektronik; Inductance: 39 nH; ComponentLink1Description: Manufacturer; ComponentLink1URL: http://www.we-online.de; Created by: Baojun Chen; Created Date: Nov.2015; ComponentLink2Description: Datasheet; ComponentLink2URL: http://katalog.we-online.de/pbs/datasheet/744784139A.pdf
footprint WE-MK_0402A
pins: 1, 2

## WE-MK 0402A, 744784147A
designator L?, comment 47 nH
WE-MK Multilayer Ceramic SMD Inductor, Inductance=47 nH; partNo: 744784147A; Manufacturer: Wurth Elektronik; Inductance: 47 nH; ComponentLink1Description: Manufacturer; ComponentLink1URL: http://www.we-online.de; Created by: Baojun Chen; Created Date: Nov.2015; ComponentLink2Description: Datasheet; ComponentLink2URL: http://katalog.we-online.de/pbs/datasheet/744784147A.pdf
footprint WE-MK_0402A
pins: 1, 2

## WE-MK 0402A, 744784156A
designator L?, comment 56 nH
WE-MK Multilayer Ceramic SMD Inductor, Inductance=56 nH; partNo: 744784156A; Manufacturer: Wurth Elektronik; Inductance: 56 nH; ComponentLink1Description: Manufacturer; ComponentLink1URL: http://www.we-online.de; Created by: Baojun Chen; Created Date: Nov.2015; ComponentLink2Description: Datasheet; ComponentLink2URL: http://katalog.we-online.de/pbs/datasheet/744784156A.pdf
footprint WE-MK_0402A
pins: 1, 2

## WE-MK 0402A, 744784168A
designator L?, comment 68 nH
WE-MK Multilayer Ceramic SMD Inductor, Inductance=68 nH; partNo: 744784168A; Manufacturer: Wurth Elektronik; Inductance: 68 nH; ComponentLink1Description: Manufacturer; ComponentLink1URL: http://www.we-online.de; Created by: Baojun Chen; Created Date: Nov.2015; ComponentLink2Description: Datasheet; ComponentLink2URL: http://katalog.we-online.de/pbs/datasheet/744784168A.pdf
footprint WE-MK_0402A
pins: 1, 2

## WE-MK 0402A, 744784182A
designator L?, comment 82 nH
WE-MK Multilayer Ceramic SMD Inductor, Inductance=82 nH; partNo: 744784182A; Manufacturer: Wurth Elektronik; Inductance: 82 nH; ComponentLink1Description: Manufacturer; ComponentLink1URL: http://www.we-online.de; Created by: Baojun Chen; Created Date: Nov.2015; ComponentLink2Description: Datasheet; ComponentLink2URL: http://katalog.we-online.de/pbs/datasheet/744784182A.pdf
footprint WE-MK_0402A
pins: 1, 2

## WE-MK 0402A, 744784210A
designator L?, comment 100 nH
WE-MK Multilayer Ceramic SMD Inductor, Inductance=100 nH; partNo: 744784210A; Manufacturer: Wurth Elektronik; Inductance: 100 nH; ComponentLink1Description: Manufacturer; ComponentLink1URL: http://www.we-online.de; Created by: Baojun Chen; Created Date: Nov.2015; ComponentLink2Description: Datasheet; ComponentLink2URL: http://katalog.we-online.de/pbs/datasheet/744784210A.pdf
footprint WE-MK_0402A
pins: 1, 2

## WE-MK 0402A, 744784212A
designator L?, comment 120 nH
WE-MK Multilayer Ceramic SMD Inductor, Inductance=120 nH; partNo: 744784212A; Manufacturer: Wurth Elektronik; Inductance: 120 nH; ComponentLink1Description: Manufacturer; ComponentLink1URL: http://www.we-online.de; Created by: Baojun Chen; Created Date: Nov.2015; ComponentLink2Description: Datasheet; ComponentLink2URL: http://katalog.we-online.de/pbs/datasheet/744784212A.pdf
footprint WE-MK_0402A
pins: 1, 2

## WE-MK 0402A, 744784215A
designator L?, comment 150 nH
WE-MK Multilayer Ceramic SMD Inductor, Inductance=150 nH; partNo: 744784215A; Manufacturer: Wurth Elektronik; Inductance: 150 nH; ComponentLink1Description: Manufacturer; ComponentLink1URL: http://www.we-online.de; Created by: Baojun Chen; Created Date: Nov.2015; ComponentLink2Description: Datasheet; ComponentLink2URL: http://katalog.we-online.de/pbs/datasheet/744784215A.pdf
footprint WE-MK_0402A
pins: 1, 2

## WE-MK 0402A, 744784218A
designator L?, comment 180 nH
WE-MK Multilayer Ceramic SMD Inductor, Inductance=180 nH; partNo: 744784218A; Manufacturer: Wurth Elektronik; Inductance: 180 nH; ComponentLink1Description: Manufacturer; ComponentLink1URL: http://www.we-online.de; Created by: Baojun Chen; Created Date: Nov.2015; ComponentLink2Description: Datasheet; ComponentLink2URL: http://katalog.we-online.de/pbs/datasheet/744784218A.pdf
footprint WE-MK_0402A
pins: 1, 2

## WE-MK 0402A, 744784222A
designator L?, comment 220 nH
WE-MK Multilayer Ceramic SMD Inductor, Inductance=220 nH; partNo: 744784222A; Manufacturer: Wurth Elektronik; Inductance: 220 nH; ComponentLink1Description: Manufacturer; ComponentLink1URL: http://www.we-online.de; Created by: Baojun Chen; Created Date: Nov.2015; ComponentLink2Description: Datasheet; ComponentLink2URL: http://katalog.we-online.de/pbs/datasheet/744784222A.pdf
footprint WE-MK_0402A
pins: 1, 2

## WE-MK 0402A, 744784227A
designator L?, comment 270 nH
WE-MK Multilayer Ceramic SMD Inductor, Inductance=270 nH; partNo: 744784227A; Manufacturer: Wurth Elektronik; Inductance: 270 nH; ComponentLink1Description: Manufacturer; ComponentLink1URL: http://www.we-online.de; Created by: Baojun Chen; Created Date: Nov.2015; ComponentLink2Description: Datasheet; ComponentLink2URL: http://katalog.we-online.de/pbs/datasheet/744784227A.pdf
footprint WE-MK_0402A
pins: 1, 2


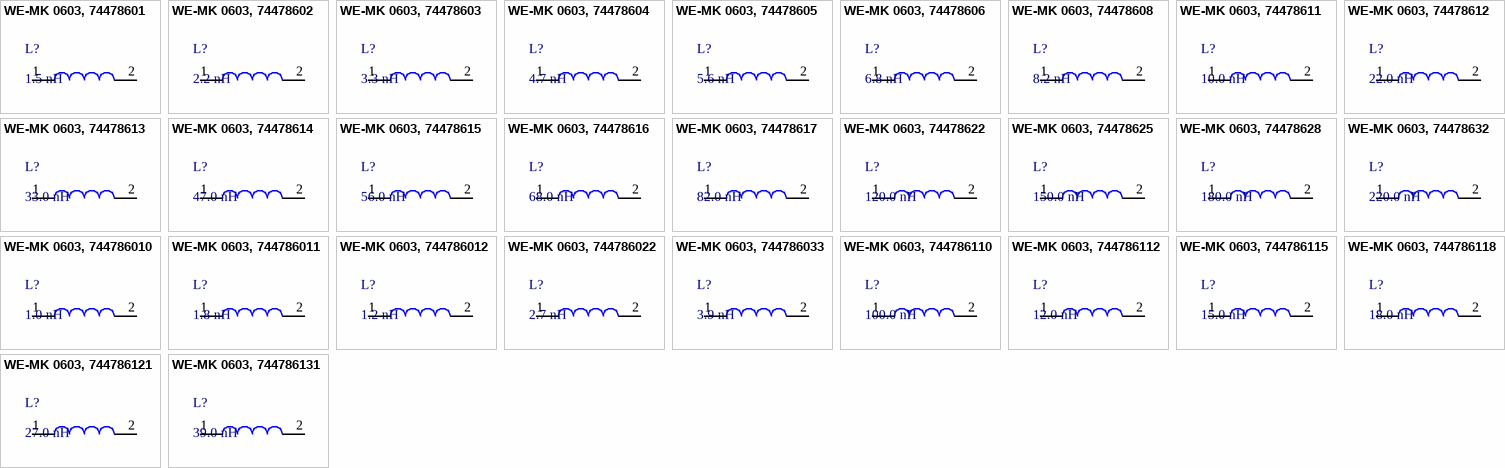
[diagram p3: symbols WE-MK 0603, 74478601 to WE-MK 0603, 744786131]

## WE-MK 0603, 74478601
designator L?, comment 1.5 nH
WE-MK Multilayer Ceramic SMD Inductor, Inductance=1.5 nH; partNo: 74478601; Manufacturer: Wurth Elektronik; Inductance: 1.5 nH; ComponentLink1Description: Manufacturer; ComponentLink1URL: http://www.we-online.de; Created by: Baojun Chen; Created Date: Nov.2015; ComponentLink2Description: Datasheet; ComponentLink2URL: http://katalog.we-online.de/pbs/datasheet/74478601.pdf
footprint WE-MK_0603
pins: 1, 2

## WE-MK 0603, 74478602
designator L?, comment 2.2 nH
WE-MK Multilayer Ceramic SMD Inductor, Inductance=2.2 nH; partNo: 74478602; Manufacturer: Wurth Elektronik; Inductance: 2.2 nH; ComponentLink1Description: Manufacturer; ComponentLink1URL: http://www.we-online.de; Created by: Baojun Chen; Created Date: Nov.2015; ComponentLink2Description: Datasheet; ComponentLink2URL: http://katalog.we-online.de/pbs/datasheet/74478602.pdf
footprint WE-MK_0603
pins: 1, 2

## WE-MK 0603, 74478603
designator L?, comment 3.3 nH
WE-MK Multilayer Ceramic SMD Inductor, Inductance=3.3 nH; partNo: 74478603; Manufacturer: Wurth Elektronik; Inductance: 3.3 nH; ComponentLink1Description: Manufacturer; ComponentLink1URL: http://www.we-online.de; Created by: Baojun Chen; Created Date: Nov.2015; ComponentLink2Description: Datasheet; ComponentLink2URL: http://katalog.we-online.de/pbs/datasheet/74478603.pdf
footprint WE-MK_0603
pins: 1, 2

## WE-MK 0603, 74478604
designator L?, comment 4.7 nH
WE-MK Multilayer Ceramic SMD Inductor, Inductance=4.7 nH; partNo: 74478604; Manufacturer: Wurth Elektronik; Inductance: 4.7 nH; ComponentLink1Description: Manufacturer; ComponentLink1URL: http://www.we-online.de; Created by: Baojun Chen; Created Date: Nov.2015; ComponentLink2Description: Datasheet; ComponentLink2URL: http://katalog.we-online.de/pbs/datasheet/74478604.pdf
footprint WE-MK_0603
pins: 1, 2

## WE-MK 0603, 74478605
designator L?, comment 5.6 nH
WE-MK Multilayer Ceramic SMD Inductor, Inductance=5.6 nH; partNo: 74478605; Manufacturer: Wurth Elektronik; Inductance: 5.6 nH; ComponentLink1Description: Manufacturer; ComponentLink1URL: http://www.we-online.de; Created by: Baojun Chen; Created Date: Nov.2015; ComponentLink2Description: Datasheet; ComponentLink2URL: http://katalog.we-online.de/pbs/datasheet/74478605.pdf
footprint WE-MK_0603
pins: 1, 2

## WE-MK 0603, 74478606
designator L?, comment 6.8 nH
WE-MK Multilayer Ceramic SMD Inductor, Inductance=6.8 nH; partNo: 74478606; Manufacturer: Wurth Elektronik; Inductance: 6.8 nH; ComponentLink1Description: Manufacturer; ComponentLink1URL: http://www.we-online.de; Created by: Baojun Chen; Created Date: Nov.2015; ComponentLink2Description: Datasheet; ComponentLink2URL: http://katalog.we-online.de/pbs/datasheet/74478606.pdf
footprint WE-MK_0603
pins: 1, 2

## WE-MK 0603, 74478608
designator L?, comment 8.2 nH
WE-MK Multilayer Ceramic SMD Inductor, Inductance=8.2 nH; partNo: 74478608; Manufacturer: Wurth Elektronik; Inductance: 8.2 nH; ComponentLink1Description: Manufacturer; ComponentLink1URL: http://www.we-online.de; Created by: Baojun Chen; Created Date: Nov.2015; ComponentLink2Description: Datasheet; ComponentLink2URL: http://katalog.we-online.de/pbs/datasheet/74478608.pdf
footprint WE-MK_0603
pins: 1, 2

## WE-MK 0603, 74478611
designator L?, comment 10.0 nH
WE-MK Multilayer Ceramic SMD Inductor, Inductance=10.0 nH; partNo: 74478611; Manufacturer: Wurth Elektronik; Inductance: 10.0 nH; ComponentLink1Description: Manufacturer; ComponentLink1URL: http://www.we-online.de; Created by: Baojun Chen; Created Date: Nov.2015; ComponentLink2Description: Datasheet; ComponentLink2URL: http://katalog.we-online.de/pbs/datasheet/74478611.pdf
footprint WE-MK_0603
pins: 1, 2

## WE-MK 0603, 74478612
designator L?, comment 22.0 nH
WE-MK Multilayer Ceramic SMD Inductor, Inductance=22.0 nH; partNo: 74478612; Manufacturer: Wurth Elektronik; Inductance: 22.0 nH; ComponentLink1Description: Manufacturer; ComponentLink1URL: http://www.we-online.de; Created by: Baojun Chen; Created Date: Nov.2015; ComponentLink2Description: Datasheet; ComponentLink2URL: http://katalog.we-online.de/pbs/datasheet/74478612.pdf
footprint WE-MK_0603
pins: 1, 2

## WE-MK 0603, 74478613
designator L?, comment 33.0 nH
WE-MK Multilayer Ceramic SMD Inductor, Inductance=33.0 nH; partNo: 74478613; Manufacturer: Wurth Elektronik; Inductance: 33.0 nH; ComponentLink1Description: Manufacturer; ComponentLink1URL: http://www.we-online.de; Created by: Baojun Chen; Created Date: Nov.2015; ComponentLink2Description: Datasheet; ComponentLink2URL: http://katalog.we-online.de/pbs/datasheet/74478613.pdf
footprint WE-MK_0603
pins: 1, 2

## WE-MK 0603, 74478614
designator L?, comment 47.0 nH
WE-MK Multilayer Ceramic SMD Inductor, Inductance=47.0 nH; partNo: 74478614; Manufacturer: Wurth Elektronik; Inductance: 47.0 nH; ComponentLink1Description: Manufacturer; ComponentLink1URL: http://www.we-online.de; Created by: Baojun Chen; Created Date: Nov.2015; ComponentLink2Description: Datasheet; ComponentLink2URL: http://katalog.we-online.de/pbs/datasheet/74478614.pdf
footprint WE-MK_0603
pins: 1, 2

## WE-MK 0603, 74478615
designator L?, comment 56.0 nH
WE-MK Multilayer Ceramic SMD Inductor, Inductance=56.0 nH; partNo: 74478615; Manufacturer: Wurth Elektronik; Inductance: 56.0 nH; ComponentLink1Description: Manufacturer; ComponentLink1URL: http://www.we-online.de; Created by: Baojun Chen; Created Date: Nov.2015; ComponentLink2Description: Datasheet; ComponentLink2URL: http://katalog.we-online.de/pbs/datasheet/74478615.pdf
footprint WE-MK_0603
pins: 1, 2

## WE-MK 0603, 74478616
designator L?, comment 68.0 nH
WE-MK Multilayer Ceramic SMD Inductor, Inductance=68.0 nH; partNo: 74478616; Manufacturer: Wurth Elektronik; Inductance: 68.0 nH; ComponentLink1Description: Manufacturer; ComponentLink1URL: http://www.we-online.de; Created by: Baojun Chen; Created Date: Nov.2015; ComponentLink2Description: Datasheet; ComponentLink2URL: http://katalog.we-online.de/pbs/datasheet/74478616.pdf
footprint WE-MK_0603
pins: 1, 2

## WE-MK 0603, 74478617
designator L?, comment 82.0 nH
WE-MK Multilayer Ceramic SMD Inductor, Inductance=82.0 nH; partNo: 74478617; Manufacturer: Wurth Elektronik; Inductance: 82.0 nH; ComponentLink1Description: Manufacturer; ComponentLink1URL: http://www.we-online.de; Created by: Baojun Chen; Created Date: Nov.2015; ComponentLink2Description: Datasheet; ComponentLink2URL: http://katalog.we-online.de/pbs/datasheet/74478617.pdf
footprint WE-MK_0603
pins: 1, 2

## WE-MK 0603, 74478622
designator L?, comment 120.0 nH
WE-MK Multilayer Ceramic SMD Inductor, Inductance=120.0 nH; partNo: 74478622; Manufacturer: Wurth Elektronik; Inductance: 120.0 nH; ComponentLink1Description: Manufacturer; ComponentLink1URL: http://www.we-online.de; Created by: Baojun Chen; Created Date: Nov.2015; ComponentLink2Description: Datasheet; ComponentLink2URL: http://katalog.we-online.de/pbs/datasheet/74478622.pdf
footprint WE-MK_0603
pins: 1, 2

## WE-MK 0603, 74478625
designator L?, comment 150.0 nH
WE-MK Multilayer Ceramic SMD Inductor, Inductance=150.0 nH; partNo: 74478625; Manufacturer: Wurth Elektronik; Inductance: 150.0 nH; ComponentLink1Description: Manufacturer; ComponentLink1URL: http://www.we-online.de; Created by: Baojun Chen; Created Date: Nov.2015; ComponentLink2Description: Datasheet; ComponentLink2URL: http://katalog.we-online.de/pbs/datasheet/74478625.pdf
footprint WE-MK_0603
pins: 1, 2

## WE-MK 0603, 74478628
designator L?, comment 180.0 nH
WE-MK Multilayer Ceramic SMD Inductor, Inductance=180.0 nH; partNo: 74478628; Manufacturer: Wurth Elektronik; Inductance: 180.0 nH; ComponentLink1Description: Manufacturer; ComponentLink1URL: http://www.we-online.de; Created by: Baojun Chen; Created Date: Nov.2015; ComponentLink2Description: Datasheet; ComponentLink2URL: http://katalog.we-online.de/pbs/datasheet/74478628.pdf
footprint WE-MK_0603
pins: 1, 2

## WE-MK 0603, 74478632
designator L?, comment 220.0 nH
WE-MK Multilayer Ceramic SMD Inductor, Inductance=220.0 nH; partNo: 74478632; Manufacturer: Wurth Elektronik; Inductance: 220.0 nH; ComponentLink1Description: Manufacturer; ComponentLink1URL: http://www.we-online.de; Created by: Baojun Chen; Created Date: Nov.2015; ComponentLink2Description: Datasheet; ComponentLink2URL: http://katalog.we-online.de/pbs/datasheet/74478632.pdf
footprint WE-MK_0603
pins: 1, 2

## WE-MK 0603, 744786010
designator L?, comment 1.0 nH
WE-MK Multilayer Ceramic SMD Inductor, Inductance=1.0 nH; partNo: 744786010; Manufacturer: Wurth Elektronik; Inductance: 1.0 nH; ComponentLink1Description: Manufacturer; ComponentLink1URL: http://www.we-online.de; Created by: Baojun Chen; Created Date: Nov.2015; ComponentLink2Description: Datasheet; ComponentLink2URL: http://katalog.we-online.de/pbs/datasheet/744786010.pdf
footprint WE-MK_0603
pins: 1, 2

## WE-MK 0603, 744786011
designator L?, comment 1.8 nH
WE-MK Multilayer Ceramic SMD Inductor, Inductance=1.8 nH; partNo: 744786011; Manufacturer: Wurth Elektronik; Inductance: 1.8 nH; ComponentLink1Description: Manufacturer; ComponentLink1URL: http://www.we-online.de; Created by: Baojun Chen; Created Date: Nov.2015; ComponentLink2Description: Datasheet; ComponentLink2URL: http://katalog.we-online.de/pbs/datasheet/744786011.pdf
footprint WE-MK_0603
pins: 1, 2

## WE-MK 0603, 744786012
designator L?, comment 1.2 nH
WE-MK Multilayer Ceramic SMD Inductor, Inductance=1.2 nH; partNo: 744786012; Manufacturer: Wurth Elektronik; Inductance: 1.2 nH; ComponentLink1Description: Manufacturer; ComponentLink1URL: http://www.we-online.de; Created by: Baojun Chen; Created Date: Nov.2015; ComponentLink2Description: Datasheet; ComponentLink2URL: http://katalog.we-online.de/pbs/datasheet/744786012.pdf
footprint WE-MK_0603
pins: 1, 2

## WE-MK 0603, 744786022
designator L?, comment 2.7 nH
WE-MK Multilayer Ceramic SMD Inductor, Inductance=2.7 nH; partNo: 744786022; Manufacturer: Wurth Elektronik; Inductance: 2.7 nH; ComponentLink1Description: Manufacturer; ComponentLink1URL: http://www.we-online.de; Created by: Baojun Chen; Created Date: Nov.2015; ComponentLink2Description: Datasheet; ComponentLink2URL: http://katalog.we-online.de/pbs/datasheet/744786022.pdf
footprint WE-MK_0603
pins: 1, 2

## WE-MK 0603, 744786033
designator L?, comment 3.9 nH
WE-MK Multilayer Ceramic SMD Inductor, Inductance=3.9 nH; partNo: 744786033; Manufacturer: Wurth Elektronik; Inductance: 3.9 nH; ComponentLink1Description: Manufacturer; ComponentLink1URL: http://www.we-online.de; Created by: Baojun Chen; Created Date: Nov.2015; ComponentLink2Description: Datasheet; ComponentLink2URL: http://katalog.we-online.de/pbs/datasheet/744786033.pdf
footprint WE-MK_0603
pins: 1, 2

## WE-MK 0603, 744786110
designator L?, comment 100.0 nH
WE-MK Multilayer Ceramic SMD Inductor, Inductance=100.0 nH; partNo: 744786110; Manufacturer: Wurth Elektronik; Inductance: 100.0 nH; ComponentLink1Description: Manufacturer; ComponentLink1URL: http://www.we-online.de; Created by: Baojun Chen; Created Date: Nov.2015; ComponentLink2Description: Datasheet; ComponentLink2URL: http://katalog.we-online.de/pbs/datasheet/744786110.pdf
footprint WE-MK_0603
pins: 1, 2

## WE-MK 0603, 744786112
designator L?, comment 12.0 nH
WE-MK Multilayer Ceramic SMD Inductor, Inductance=12.0 nH; partNo: 744786112; Manufacturer: Wurth Elektronik; Inductance: 12.0 nH; ComponentLink1Description: Manufacturer; ComponentLink1URL: http://www.we-online.de; Created by: Baojun Chen; Created Date: Nov.2015; ComponentLink2Description: Datasheet; ComponentLink2URL: http://katalog.we-online.de/pbs/datasheet/744786112.pdf
footprint WE-MK_0603
pins: 1, 2

## WE-MK 0603, 744786115
designator L?, comment 15.0 nH
WE-MK Multilayer Ceramic SMD Inductor, Inductance=15.0 nH; partNo: 744786115; Manufacturer: Wurth Elektronik; Inductance: 15.0 nH; ComponentLink1Description: Manufacturer; ComponentLink1URL: http://www.we-online.de; Created by: Baojun Chen; Created Date: Nov.2015; ComponentLink2Description: Datasheet; ComponentLink2URL: http://katalog.we-online.de/pbs/datasheet/744786115.pdf
footprint WE-MK_0603
pins: 1, 2

## WE-MK 0603, 744786118
designator L?, comment 18.0 nH
WE-MK Multilayer Ceramic SMD Inductor, Inductance=18.0 nH; partNo: 744786118; Manufacturer: Wurth Elektronik; Inductance: 18.0 nH; ComponentLink1Description: Manufacturer; ComponentLink1URL: http://www.we-online.de; Created by: Baojun Chen; Created Date: Nov.2015; ComponentLink2Description: Datasheet; ComponentLink2URL: http://katalog.we-online.de/pbs/datasheet/744786118.pdf
footprint WE-MK_0603
pins: 1, 2

## WE-MK 0603, 744786121
designator L?, comment 27.0 nH
WE-MK Multilayer Ceramic SMD Inductor, Inductance=27.0 nH; partNo: 744786121; Manufacturer: Wurth Elektronik; Inductance: 27.0 nH; ComponentLink1Description: Manufacturer; ComponentLink1URL: http://www.we-online.de; Created by: Baojun Chen; Created Date: Nov.2015; ComponentLink2Description: Datasheet; ComponentLink2URL: http://katalog.we-online.de/pbs/datasheet/744786121.pdf
footprint WE-MK_0603
pins: 1, 2

## WE-MK 0603, 744786131
designator L?, comment 39.0 nH
WE-MK Multilayer Ceramic SMD Inductor, Inductance=39.0 nH; partNo: 744786131; Manufacturer: Wurth Elektronik; Inductance: 39.0 nH; ComponentLink1Description: Manufacturer; ComponentLink1URL: http://www.we-online.de; Created by: Baojun Chen; Created Date: Nov.2015; ComponentLink2Description: Datasheet; ComponentLink2URL: http://katalog.we-online.de/pbs/datasheet/744786131.pdf
footprint WE-MK_0603
pins: 1, 2


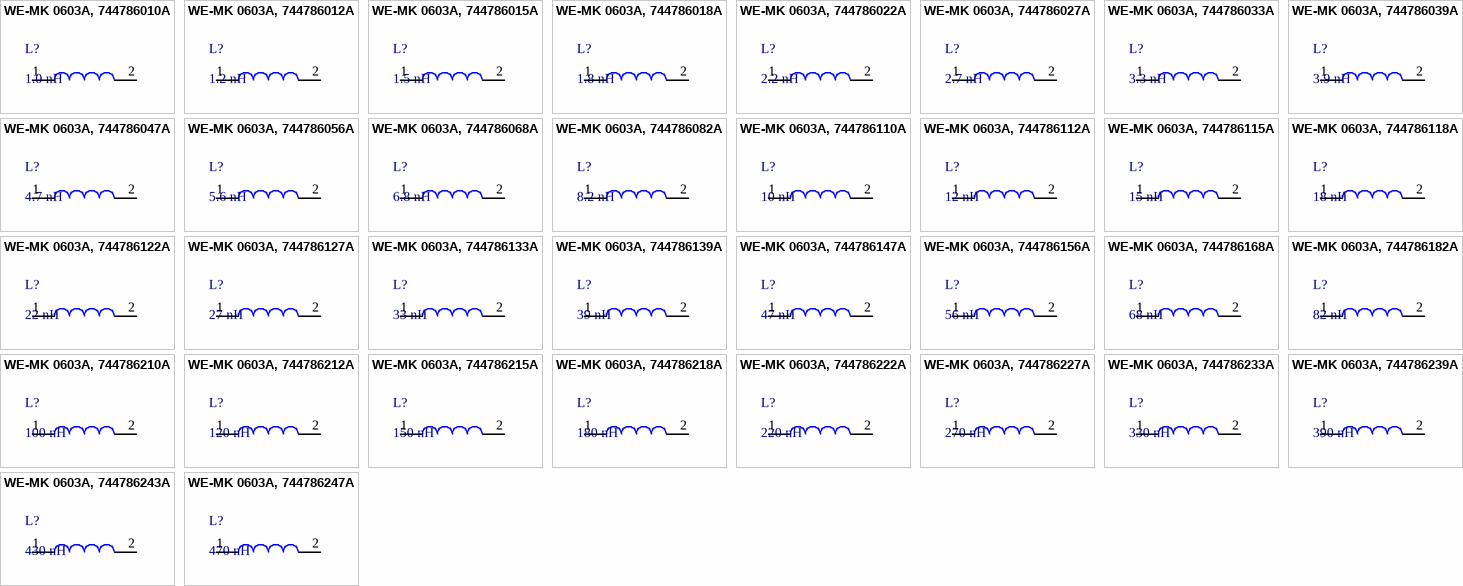
[diagram p4: symbols WE-MK 0603A, 744786010A to WE-MK 0603A, 744786247A]

## WE-MK 0603A, 744786010A
designator L?, comment 1.0 nH
WE-MK Multilayer Ceramic SMD Inductor, Inductance=1.0 nH; partNo: 744786010A; Manufacturer: Wurth Elektronik; Inductance: 1.0 nH; ComponentLink1Description: Manufacturer; ComponentLink1URL: http://www.we-online.de; Created by: Baojun Chen; Created Date: Nov.2015; ComponentLink2Description: Datasheet; ComponentLink2URL: http://katalog.we-online.de/pbs/datasheet/744786010A.pdf
footprint WE-MK_0603A
pins: 1, 2

## WE-MK 0603A, 744786012A
designator L?, comment 1.2 nH
WE-MK Multilayer Ceramic SMD Inductor, Inductance=1.2 nH; partNo: 744786012A; Manufacturer: Wurth Elektronik; Inductance: 1.2 nH; ComponentLink1Description: Manufacturer; ComponentLink1URL: http://www.we-online.de; Created by: Baojun Chen; Created Date: Nov.2015; ComponentLink2Description: Datasheet; ComponentLink2URL: http://katalog.we-online.de/pbs/datasheet/744786012A.pdf
footprint WE-MK_0603A
pins: 1, 2